# EAGLE library part 2MM-RA-1X8 (library J-precidip-831-2mm-RA)
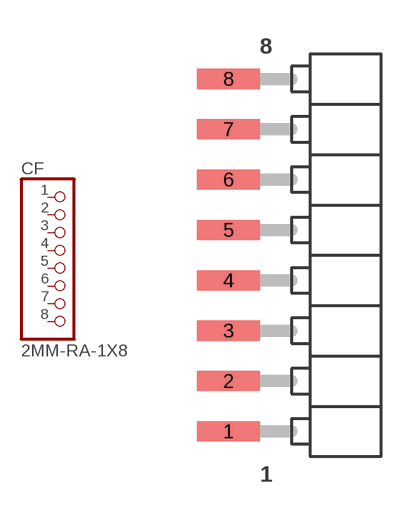
[diagram p1: symbol with the pads of CF-2MM-RA-1X8-PRECIDIP-831; footprint CF-2MM-RA-1X8-PRECIDIP-831]

Designator prefix CF

## 2MM-RA-1X8  [CF-2MM-RA-1X8-PRECIDIP-831]
1  1  pas
2  2  pas
3  3  pas
4  4  pas
5  5  pas
6  6  pas
7  7  pas
8  8  pas

## Footprint CF-2MM-RA-1X8-PRECIDIP-831 (pad centres in mm)
smd 2.5 x 0.8: 1 -3.25,-7; 2 -3.25,-5; 3 -3.25,-3; 4 -3.25,-1; 5 -3.25,1; 6 -3.25,3; 7 -3.25,5; 8 -3.25,7